# EAGLE library part STM32F334K8T (library h8-stm32)
STM32 Mikrocontroller: STM32F334K8Tx Documentary, Reference Manual and Datasheet: http://www.st.com/en/microcontrollers/stm32f334k8.html Created by Hans Achterbahn (https://github.com/HansAchterbahn)
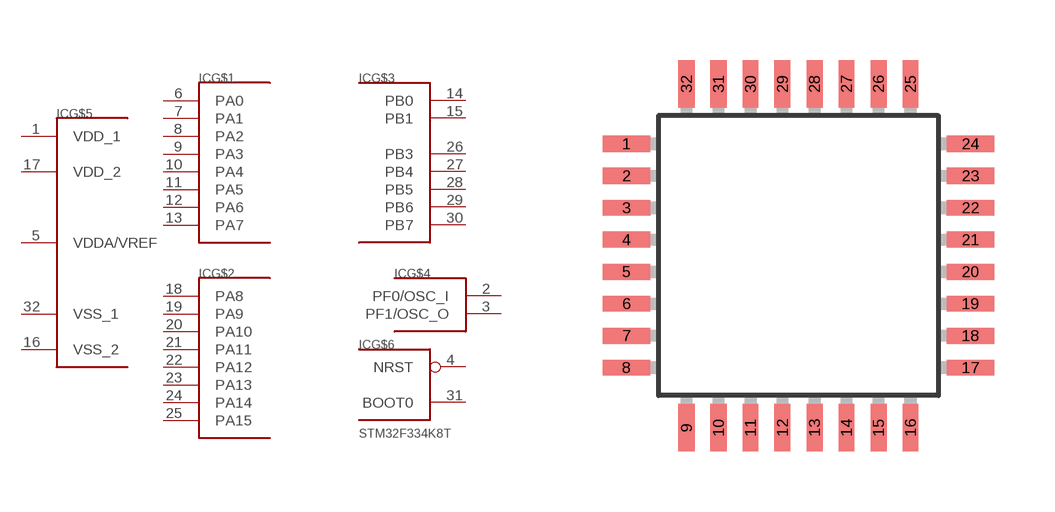
[diagram p10: symbol with the pads of LQFP32-7X7; footprint LQFP32-7X7]

Designator prefix IC; gates G$1=PORT_A_L G$2=PORT_A_H G$3=PORT_B_L_NOT_PB2 G$4=PORT_F_2 G$5=VCC_VDD_XS G$6=BOOT_RST

## STM32F334K8T  [LQFP32-7X7]
1  G$5:VDD_1  pwr
2  G$4:PF0/OSC_I
3  G$4:PF1/OSC_O
4  G$6:NRST  in
5  G$5:VDDA/VREF  pwr
6  G$1:PA0
7  G$1:PA1
8  G$1:PA2
9  G$1:PA3
10  G$1:PA4
11  G$1:PA5
12  G$1:PA6
13  G$1:PA7
14  G$3:PB0
15  G$3:PB1
16  G$5:VSS_2  pwr
17  G$5:VDD_2  pwr
18  G$2:PA8
19  G$2:PA9
20  G$2:PA10
21  G$2:PA11
22  G$2:PA12
23  G$2:PA13
24  G$2:PA14
25  G$2:PA15
26  G$3:PB3
27  G$3:PB4
28  G$3:PB5
29  G$3:PB6
30  G$3:PB7
31  G$6:BOOT0  in
32  G$5:VSS_1  pwr

## Footprint LQFP32-7X7 (pad centres in mm)
LQFP-32 package 7x7 mm case, 0.8 mm lead pitch
smd 1.2 x 0.4: 1 -4.3,2.8; 2 -4.3,2; 3 -4.3,1.2; 4 -4.3,0.4; 5 -4.3,-0.4; 6 -4.3,-1.2; 7 -4.3,-2; 8 -4.3,-2.8; 17 4.3,-2.8; 18 4.3,-2; 19 4.3,-1.2; 20 4.3,-0.4; 21 4.3,0.4; 22 4.3,1.2; 23 4.3,2; 24 4.3,2.8
smd 0.4 x 1.2: 9 -2.8,-4.3; 10 -2,-4.3; 11 -1.2,-4.3; 12 -0.4,-4.3; 13 0.4,-4.3; 14 1.2,-4.3; 15 2,-4.3; 16 2.8,-4.3; 25 2.8,4.3; 26 2,4.3; 27 1.2,4.3; 28 0.4,4.3; 29 -0.4,4.3; 30 -1.2,4.3; 31 -2,4.3; 32 -2.8,4.3